# EAGLE library part JTAG10PINMINI (library OSSI)
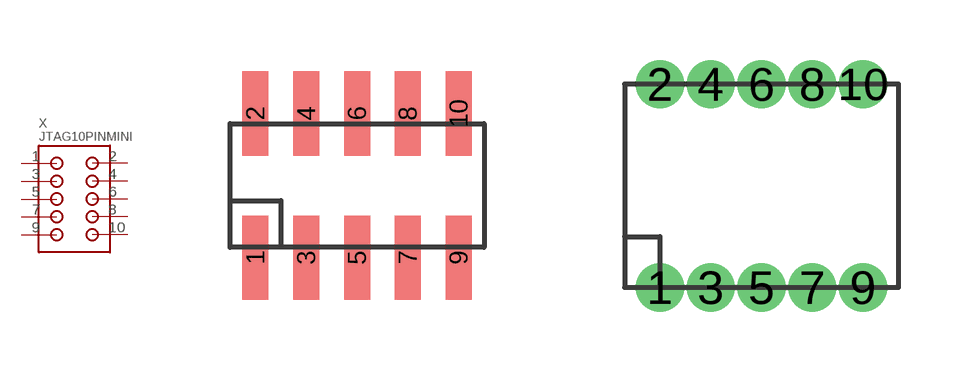
[diagram p39: symbol with the pads of JTAG10PINMINI; footprints JTAG10PINMINI, M50-3200545]

Designator prefix X

## JTAG10PINMINI  [JTAG10PINMINI]
1  1
2  2
3  3
4  4
5  5
6  6
7  7
8  8
9  9
10  10

## JTAG10PINMINI-H  [M50-3200545]
Pads as for JTAG10PINMINI

## Footprint JTAG10PINMINI (pad centres in mm)
Harwin M50-3120545
smd 0.65 x 2.1: 1 -2.54,-1.8; 2 -2.54,1.8; 3 -1.27,-1.8; 4 -1.27,1.8; 5 0,-1.8; 6 0,1.8; 7 1.27,-1.8; 8 1.27,1.8; 9 2.54,-1.8; 10 2.54,1.8

## Footprint M50-3200545 (pad centres in mm)
drill 0.7 pad 1: 1 -2.54,-2.54; 2 -2.54,2.54; 3 -1.27,-2.54; 4 -1.27,2.54; 5 0,-2.54; 6 0,2.54; 7 1.27,-2.54; 8 1.27,2.54; 9 2.54,-2.54; 10 2.54,2.54